# Altium footprint library Pololu_G2_Motor_Driver_24v21.PcbLib: 1 footprints
Each footprint in its own frame and in the unit in brackets; x right, y up, seen from the top. Pads: shape width x height; smd on the part's side, far side on the other; paste and mask are expansions set on the pad; w line width, h text height; cw(c..) or ccw(c..) is an arc to the next point about the centre after c.

## Pololu_G2_Driver_24v21 [mm] "Pololu G2 High-Power Motor Driver 24v21"